# Altium footprint library sram-footprint.PcbLib: 2 footprints
Each footprint in its own frame and in the unit in brackets; x right, y up, seen from the top. Pads: shape width x height; smd on the part's side, far side on the other; paste and mask are expansions set on the pad; w line width, h text height; cw(c..) or ccw(c..) is an arc to the next point about the centre after c.
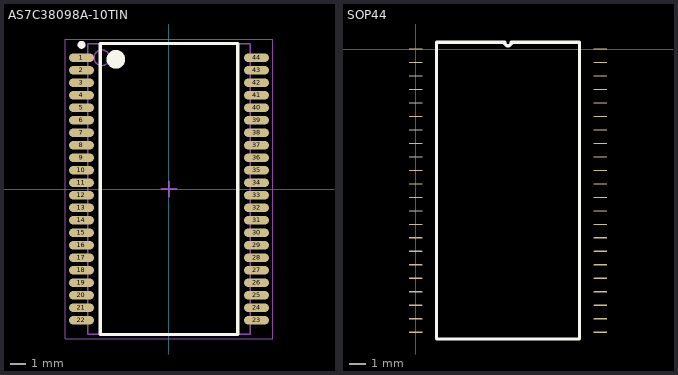
[diagram p0: the footprints below, top view; thin cyan lines are the x and y axes]

## AS7C38098A-10TIN [mm] "TSOPII, 44-Leads, Body 18,41x10,16mm, Pitch 0,80mm, IPC Medium Density"
height 1.2
pads (44):
  oval 1.6x0.55 smd: 1(-5.6,8.4) 2(-5.6,7.6) 3(-5.6,6.8) 4(-5.6,6) 5(-5.6,5.2) 6(-5.6,4.4) 7(-5.6,3.6) 8(-5.6,2.8) 9(-5.6,2) 10(-5.6,1.2) 11(-5.6,0.4) 12(-5.6,-0.4) 13(-5.6,-1.2) 14(-5.6,-2) 15(-5.6,-2.8) 16(-5.6,-3.6) 17(-5.6,-4.4) 18(-5.6,-5.2) 19(-5.6,-6) 20(-5.6,-6.8) 21(-5.6,-7.6) 22(-5.6,-8.4) 23(5.6,-8.4) 24(5.6,-7.6) 25(5.6,-6.8) 26(5.6,-6) 27(5.6,-5.2) 28(5.6,-4.4) 29(5.6,-3.6) 30(5.6,-2.8) 31(5.6,-2) 32(5.6,-1.2) 33(5.6,-0.4) 34(5.6,0.4) 35(5.6,1.2) 36(5.6,2) 37(5.6,2.8) 38(5.6,3.6) 39(5.6,4.4) 40(5.6,5.2) 41(5.6,6) 42(5.6,6.8) 43(5.6,7.6) 44(5.6,8.4)
Top Overlay:
  circle w0.25: c-5.6,9.225 r0.125
  circle w0.6: c-3.4,8.3 r0.3
  lines w0.2: -4.4,-9.3 -4.4,9.3 4.4,9.3 4.4,-9.3 -4.4,-9.3
Mechanical 13:
  circle w0.1: c-4.3,8.4 r0.5
  lines w0.1: -5.2,-9.3 -5.2,9.3 5.2,9.3 5.2,-9.3 -5.2,-9.3
Mechanical 15:
  lines w0.05: -6.65,-9.6 -6.65,9.6 6.65,9.6 6.65,-9.6 -6.65,-9.6
  lines w0.1: -0.5,0 0.5,0 ; 0,-0.5 0,0.5
3D body: height 1.2, standoff 0.15, extent -5.2,-9.3 5.2,9.3

## SOP44 [mm]
pads (44):
  rect 0.8x0.075 smd: 1(0,0)
  oval 0.8x0.075 smd: 2(0,-0.8) 3(0,-1.6) 4(0,-2.4) 5(0,-3.2) 6(0,-4) 7(0,-4.8) 8(0,-5.6) 9(0,-6.4) 10(0,-7.2) 11(0,-8) 12(0,-8.8) 13(0,-9.6) 14(0,-10.4) 15(0,-11.2) 16(0,-12) 17(0,-12.8) 18(0,-13.6) 19(0,-14.4) 20(0,-15.2) 21(0,-16) 22(0,-16.8) 23(10.96,-16.8) 24(10.96,-16) 25(10.96,-15.2) 26(10.96,-14.4) 27(10.96,-13.6) 28(10.96,-12.8) 29(10.96,-12) 30(10.96,-11.2) 31(10.96,-10.4) 32(10.96,-9.6) 33(10.96,-8.8) 34(10.96,-8) 35(10.96,-7.2) 36(10.96,-6.4) 37(10.96,-5.6) 38(10.96,-4.8) 39(10.96,-4) 40(10.96,-3.2) 41(10.96,-2.4) 42(10.96,-1.6) 43(10.96,-0.8) 44(10.96,0)
Top Overlay:
  lines w0.2: 1.235,-17.2 1.235,0.4 5.28,0.4 ccw(c5.48,0.4) 5.68,0.4 9.725,0.4 9.725,-17.2 1.235,-17.2